# Altium footprint library PCB - CONNECTOR - TE - TE 282837-8.PcbLib: 1 footprints
Each footprint in its own frame and in the unit in brackets; x right, y up, seen from the top. Pads: shape width x height; smd on the part's side, far side on the other; paste and mask are expansions set on the pad; w line width, h text height; cw(c..) or ccw(c..) is an arc to the next point about the centre after c.
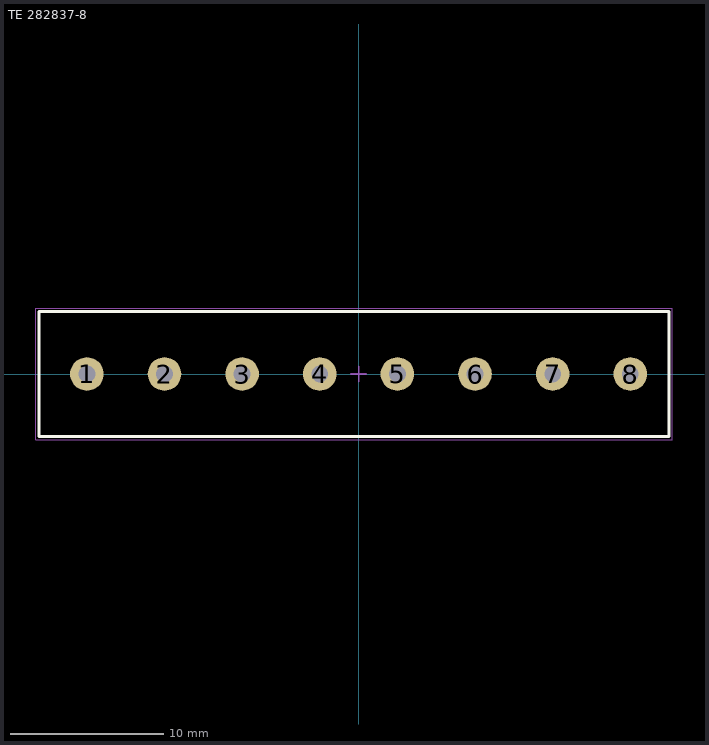
[diagram p0: the footprint, top view; thin cyan lines are the x and y axes]

## TE 282837-8 [mm] "Wire to Board Terminal Block Horizontal with Board, 8 Postions, Body 41.24x8.2mm, Pitch 5.08mm"
height 10.3
pads (8):
  round 2.2 hole 1.1: 1(-17.78,0) 2(-12.7,0) 3(-7.62,0) 4(-2.54,0) 5(2.54,0) 6(7.62,0) 7(12.7,0) 8(17.78,0)
Top Overlay:
  lines w0.2: -20.92,-4.1 -20.92,4.1 20.32,4.1 20.32,-4.1 -20.92,-4.1
Mechanical 13:
  lines w0.1: -20.92,-4.1 20.32,-4.1 20.32,4.1 -20.92,4.1 -20.92,-4.1
Mechanical 15 (Mech15):
  lines w0.05: -21.12,-4.3 -21.12,4.3 20.52,4.3 20.52,-4.3 -21.12,-4.3
  lines w0.1: -0.508,0 0,0 ; 0,-0.508 0,0 ; 0,0.508 0,0 ; 0.508,0 0,0
3D body "TE - 282837-8.STEP": height 10.3, standoff -3.8, extent -20.92,-4.1 20.32,4.1